# Altium schematic symbol library GCM155R71H104KE02J.SchLib: 1 symbol
Pins are listed as number, name and electrical type; pins without a type are passive.

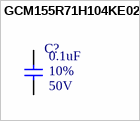
[diagram p0: symbol GCM155R71H104KE02J]

## GCM155R71H104KE02J
designator C?  Rated Voltage: 50V  Tolerance: 10%  Capacitence: 0.1uF  (hidden comment: GCM155R71H104KE02J)
CAP CER 0.1UF 50V X7R 0402; MFR: Murata Electronics; PN: GCM155R71H104KE02J; ComponentLink1Description: Datasheet; ComponentLink1URL: www.google.com; Temperature Coefficient: X7R; Package: 0402; Footprint: C0402; Supplier 1: Mouser; Supplier Part Number 1: 81-GCM155R71H104KE2J
footprint C0402 (A generic C0402 footprint)
pins: 1, 2